# EAGLE library part 171-009-213R* (library NorComp)
Vertical DB9 Connector From document 171-YYY-213RYY1, Rev 3
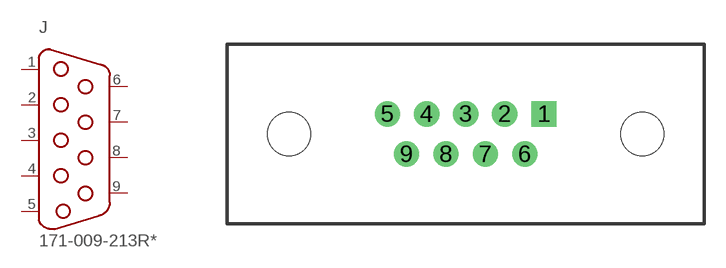
[diagram p0: symbol with the pads of DB9-V-MOUNT; footprint DB9-V-MOUNT]

Designator prefix J

## 171-009-213R001 (MANUFACTURER: NorComp; PACKAGE: NONSTANDARD)  [DB9-V-MOUNT]
1  1
2  2
3  3
4  4
5  5
6  6
7  7
8  8
9  9

## Footprint DB9-V-MOUNT (pad centres in mm)
drill 1.194 square: 1 5.537,1.422
drill 1.194 round: 2 2.769,1.422; 3 0,1.422; 4 -2.769,1.422; 5 -5.537,1.422; 6 4.191,-1.422; 7 1.397,-1.422; 8 -1.397,-1.422; 9 -4.191,-1.422
hole 3.048 at -12.497,0
hole 3.048 at 12.497,0